# Altium footprint library 3557-2.PcbLib: 1 footprints
Each footprint in its own frame and in the unit in brackets; x right, y up, seen from the top. Pads: shape width x height; smd on the part's side, far side on the other; paste and mask are expansions set on the pad; w line width, h text height; cw(c..) or ccw(c..) is an arc to the next point about the centre after c.
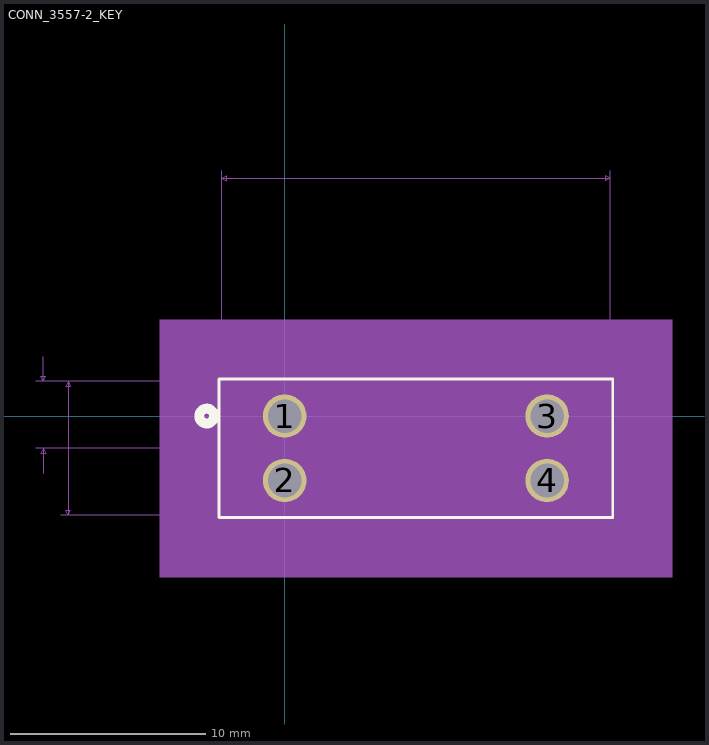
[diagram p0: the footprint, top view; thin cyan lines are the x and y axes]

## CONN_3557-2_KEY [mil]
pads (4):
  round 88 hole 68 mask+0: 1(0,0) 2(0,-130) 3(530,0) 4(530,-130)
Top Overlay:
  circle w20: c-157.5,0 r15
  lines w6: -132.5,-205 662.5,-205 662.5,75 -132.5,75 -132.5,-205
Bottom Overlay:
  circle w20: c-157.5,0 r15
Mechanical 5:
  region: -252.5,195 782.5,195 782.5,-325 -252.5,-325
Mechanical 7:
  lines w1: -502.5,-65 265,-65 ; -502.5,70 -127.5,70 ; -487.5,-115 -487.5,-65 ; -487.5,120 -487.5,70 ; -452.5,-200 -127.5,-200 ; -452.5,70 -127.5,70 ; -127.5,495 -127.5,70 ; 0,-130 772.5,-130 ; 0,170 0,0 772.5,0 ; 530,0 530,170 ; 657.5,70 657.5,495 ; 757.5,-180 757.5,-130 ; 757.5,50 757.5,0 ; -487.5,-65 -492.5,-75 -482.5,-75 -487.5,-65 ; -487.5,70 -492.5,80 -482.5,80 -487.5,70 ; -437.5,-200 -437.5,70 ; -437.5,-200 -442.5,-190 -432.5,-190 -437.5,-200 ; -437.5,70 -442.5,60 -432.5,60 -437.5,70 ; -127.5,480 657.5,480 ; -127.5,480 -117.5,485 -117.5,475 -127.5,480 ; 0,155 530,155 ; 0,155 10,160 10,150 0,155 ; 530,155 520,160 520,150 530,155 ; 657.5,480 647.5,485 647.5,475 657.5,480 ; 757.5,-130 752.5,-140 762.5,-140 757.5,-130 ; 757.5,0 752.5,10 762.5,10 757.5,0
  text "Default Padstyle: OX88Y88D68P" at -97.5,-360 h50
  text "1st Mtg Padstyle: RX110Y80D50P" at -110,-435 h50
  text "2nd Mtg Padstyle: EX70Y70D70P" at -97.5,-510 h50
  text "3rd Mtg Padstyle: EX70Y70D70P" at -97.5,-585 h50
  text "Left Mtg Padstyle: EX60Y60D30P" at -110,-660 h50
  text "Right Mtg Padstyle: EX60Y60D30P" at -122.5,-735 h50
  text "Alt Padstyle 1: OX60Y90D30P" at -72.5,-810 h50
  text "Alt Padstyle 2: OX90Y60D30P" at -72.5,-885 h50
  text "0.53in/13.462mm" at 171.25,175 h25
  text "0.785in/19.939mm" at 165,500 h25
  text "0.13in/3.302mm" at 777.5,-77.5 h25
  text "0.135in/3.429mm" at -695,-10 h25
  text "0.27in/6.858mm" at -632.5,-77.5 h25
Mechanical 13:
  circle w20: c0,75 r15
  lines w1: -127.5,-200 657.5,-200 657.5,70 -127.5,70 -127.5,-200
Mechanical 15:
  region: 667.5,80 -137.5,80 -137.5,-210 667.5,-210
  lines w6: -137.5,-210 -137.5,80 667.5,80 667.5,-210 -137.5,-210
3D body: height 10, standoff 0, extent 0,0 10,10